# Altium footprint library Electro-Mechanical.PcbLib: 37 footprints (part 2 of 3)
Each footprint in its own frame and in the unit in brackets; x right, y up, seen from the top. Pads: shape width x height; smd on the part's side, far side on the other; paste and mask are expansions set on the pad; w line width, h text height; cw(c..) or ccw(c..) is an arc to the next point about the centre after c.
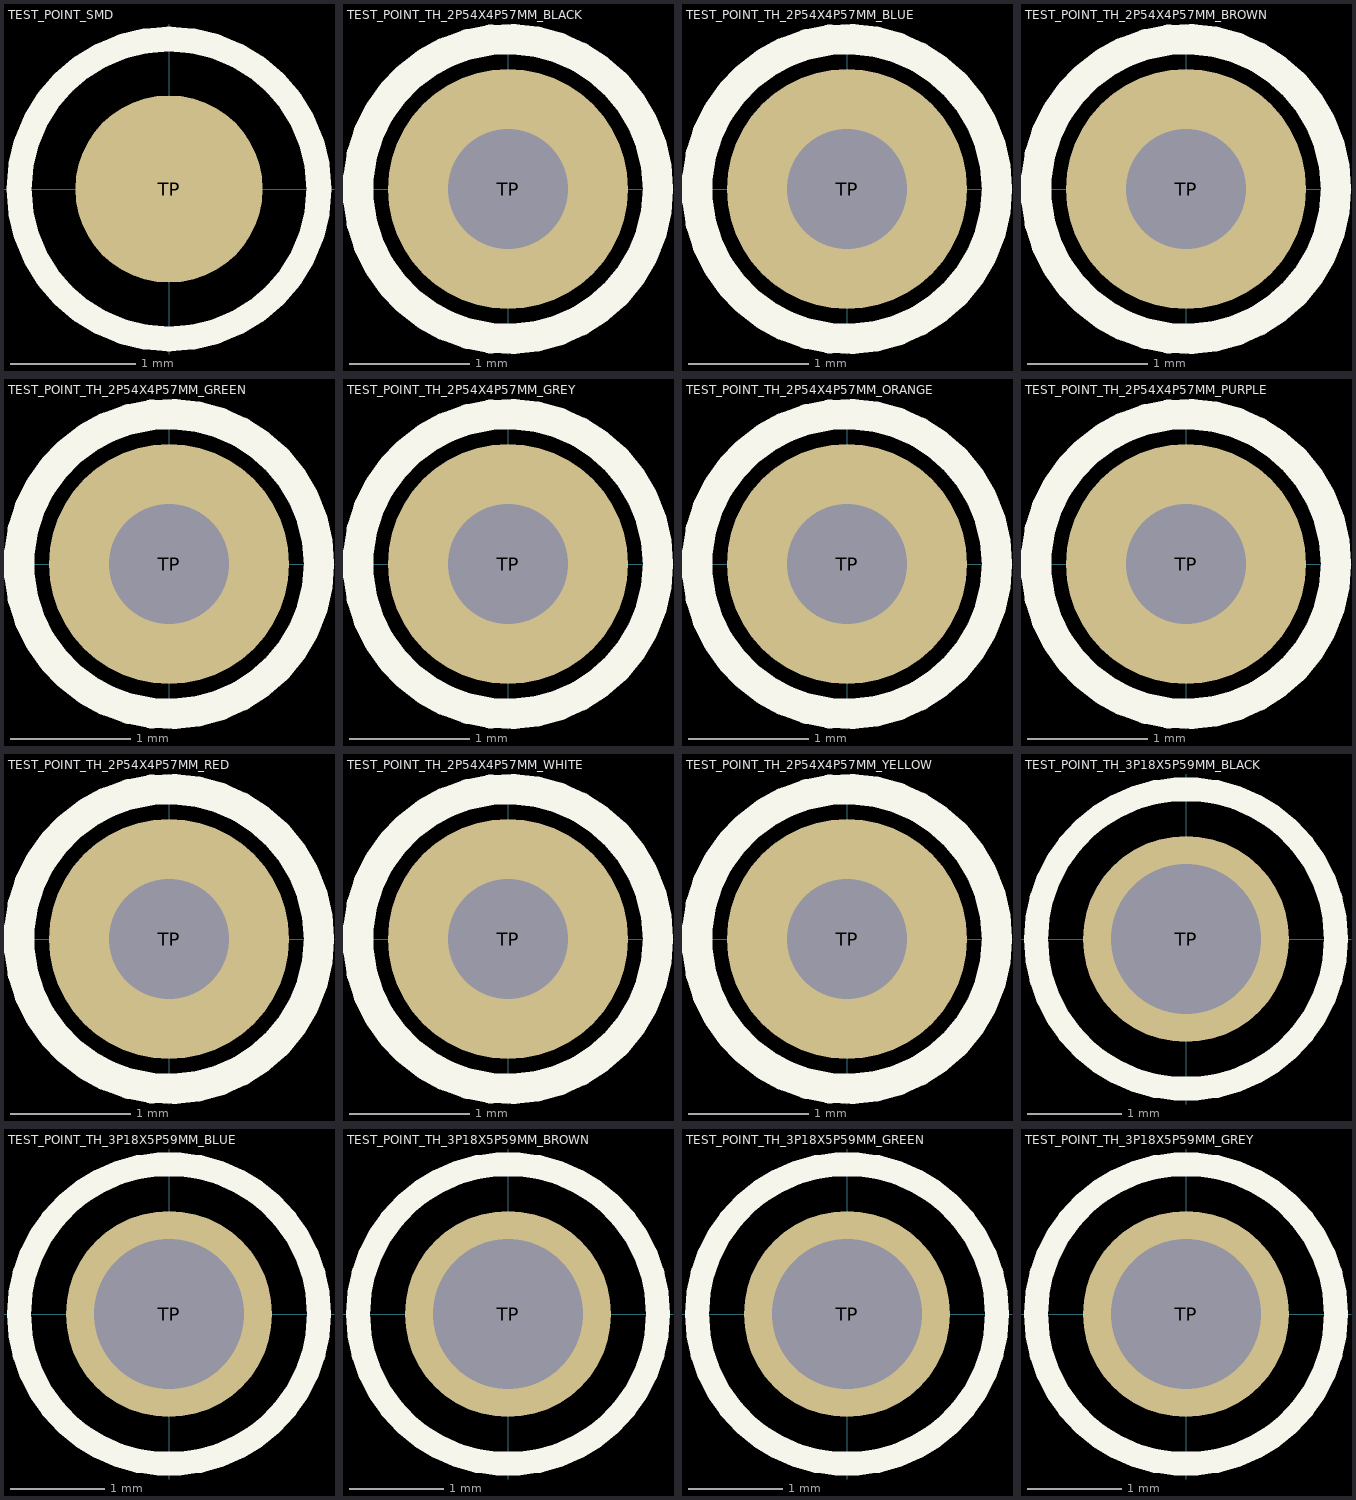
[diagram p1: the footprints below, top view; thin cyan lines are the x and y axes]

## TEST_POINT_SMD [mm]
pads (1):
  round 1.5 smd: TP(0,0)
Top Overlay:
  circle w0.2: c0,0 r1.2

## TEST_POINT_TH_2P54X4P57MM_BLACK [mm]
pads (1):
  round 2 hole 1: TP(0,0)
Top Overlay:
  circle w0.254: c0,0 r1.25
3D body "Test Point Keystone - 5001 BLACK.STEP": height 4.56, standoff -3.05, extent -1.27,-1.261 1.27,1.261

## TEST_POINT_TH_2P54X4P57MM_BLUE [mm]
pads (1):
  round 2 hole 1: TP(0,0)
Top Overlay:
  circle w0.254: c0,0 r1.25
3D body "Test Point Keystone - 5117 BLUE.STEP": height 4.56, standoff -3.05, extent -1.27,-1.261 1.27,1.261

## TEST_POINT_TH_2P54X4P57MM_BROWN [mm]
pads (1):
  round 2 hole 1: TP(0,0)
Top Overlay:
  circle w0.254: c0,0 r1.25
3D body "Test Point Keystone - 5115 BROWN.STEP": height 4.56, standoff -3.05, extent -1.27,-1.261 1.27,1.261

## TEST_POINT_TH_2P54X4P57MM_GREEN [mm]
pads (1):
  round 2 hole 1: TP(0,0)
Top Overlay:
  circle w0.254: c0,0 r1.25
3D body "Test Point Keystone - 5116 GREEN.STEP": height 4.56, standoff -3.05, extent -1.27,-1.261 1.27,1.261

## TEST_POINT_TH_2P54X4P57MM_GREY [mm]
pads (1):
  round 2 hole 1: TP(0,0)
Top Overlay:
  circle w0.254: c0,0 r1.25
3D body "Test Point Keystone - 5118 GREY.STEP": height 4.56, standoff -3.05, extent -1.27,-1.261 1.27,1.261

## TEST_POINT_TH_2P54X4P57MM_ORANGE [mm]
pads (1):
  round 2 hole 1: TP(0,0)
Top Overlay:
  circle w0.254: c0,0 r1.25
3D body "Test Point Keystone - 5003 ORANGE.STEP": height 4.56, standoff -3.05, extent -1.27,-1.261 1.27,1.261

## TEST_POINT_TH_2P54X4P57MM_PURPLE [mm]
pads (1):
  round 2 hole 1: TP(0,0)
Top Overlay:
  circle w0.254: c0,0 r1.25
3D body "Test Point Keystone - 5119 PURPLE.STEP": height 4.56, standoff -3.05, extent -1.27,-1.261 1.27,1.261

## TEST_POINT_TH_2P54X4P57MM_RED [mm]
pads (1):
  round 2 hole 1: TP(0,0)
Top Overlay:
  circle w0.254: c0,0 r1.25
3D body "Test Point Keystone - 5000 RED.STEP": height 4.56, standoff -3.05, extent -1.27,-1.261 1.27,1.261

## TEST_POINT_TH_2P54X4P57MM_WHITE [mm]
pads (1):
  round 2 hole 1: TP(0,0)
Top Overlay:
  circle w0.254: c0,0 r1.25
3D body "Test Point Keystone - 5002 WHITE.STEP": height 4.56, standoff -3.05, extent -1.27,-1.261 1.27,1.261

## TEST_POINT_TH_2P54X4P57MM_YELLOW [mm]
pads (1):
  round 2 hole 1: TP(0,0)
Top Overlay:
  circle w0.254: c0,0 r1.25
3D body "Test Point Keystone - 5004 YELLOW.STEP": height 4.56, standoff -3.05, extent -1.27,-1.261 1.27,1.261

## TEST_POINT_TH_3P18X5P59MM_BLACK [mm]
pads (1):
  round 2.2 hole 1.6: TP(0,0)
Top Overlay:
  circle w0.254: c0,0 r1.6
3D body "5006 (Black).step": height 5.59, standoff -3.3, extent -1.59,-1.578 1.59,1.578

## TEST_POINT_TH_3P18X5P59MM_BLUE [mm]
pads (1):
  round 2.2 hole 1.6: TP(0,0)
Top Overlay:
  circle w0.254: c0,0 r1.6
3D body "5122 (Blue).step": height 5.59, standoff -3.3, extent -1.59,-1.578 1.59,1.578

## TEST_POINT_TH_3P18X5P59MM_BROWN [mm]
pads (1):
  round 2.2 hole 1.6: TP(0,0)
Top Overlay:
  circle w0.254: c0,0 r1.6
3D body "5120 (Brown).step": height 5.59, standoff -3.3, extent -1.59,-1.578 1.59,1.578

## TEST_POINT_TH_3P18X5P59MM_GREEN [mm]
pads (1):
  round 2.2 hole 1.6: TP(0,0)
Top Overlay:
  circle w0.254: c0,0 r1.6
3D body "5121 (Green).step": height 5.59, standoff -3.3, extent -1.59,-1.578 1.59,1.578

## TEST_POINT_TH_3P18X5P59MM_GREY [mm]
pads (1):
  round 2.2 hole 1.6: TP(0,0)
Top Overlay:
  circle w0.254: c0,0 r1.6
3D body "5123 (Grey).step": height 5.59, standoff -3.3, extent -1.59,-1.578 1.59,1.578